# Altium schematic symbol library IBMExtender-cache.SchLib: 37 symbols
Pins are listed as number, name and electrical type; pins without a type are passive.

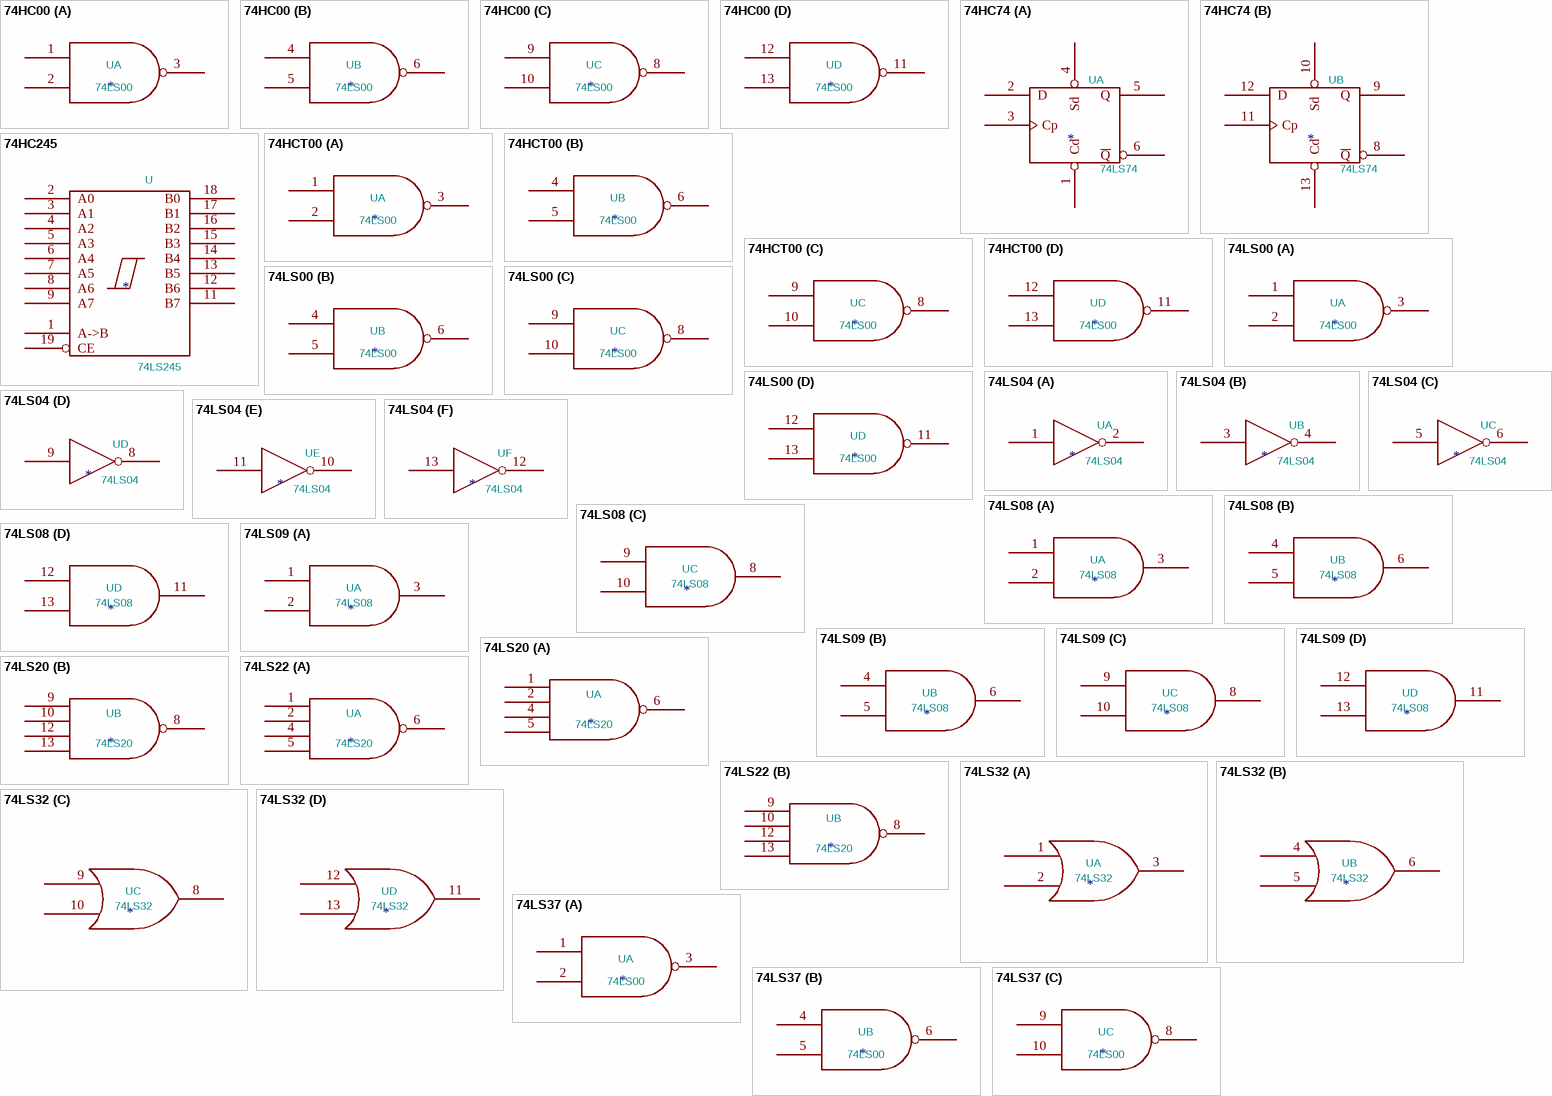
[diagram p0: symbols 74HC00 to 74LS37]

## 74HC00
designator U  value 74LS00
part A pins: 1, 2, 3, 7 GND hidden, 14 VCC hidden
part B pins: 4, 5, 6, 7 GND hidden, 14 VCC hidden
part C pins: 7 GND hidden, 8, 9, 10, 14 VCC hidden
part D pins: 7 GND hidden, 11, 12, 13, 14 VCC hidden
1 alternate drawing of the same symbol

## 74HC74
designator U  value 74LS74
part A pins: 1 Cd, 2 D, 3 Cp, 4 Sd, 5 Q, 6 ~{Q}, 7 GND hidden, 14 VCC hidden
part B pins: 7 GND hidden, 8 ~{Q}, 9 Q, 10 Sd, 11 Cp, 12 D, 13 Cd, 14 VCC hidden

## 74HC245
designator U  value 74LS245
pins: 1 A->B, 2 A0, 3 A1, 4 A2, 5 A3, 6 A4, 7 A5, 8 A6, 9 A7, 10 GND hidden, 11 B7, 12 B6, 13 B5, 14 B4, 15 B3, 16 B2, 17 B1, 18 B0, 19 CE, 20 VCC hidden

## 74HCT00
designator U  value 74LS00
part A pins: 1, 2, 3, 7 GND hidden, 14 VCC hidden
part B pins: 4, 5, 6, 7 GND hidden, 14 VCC hidden
part C pins: 7 GND hidden, 8, 9, 10, 14 VCC hidden
part D pins: 7 GND hidden, 11, 12, 13, 14 VCC hidden
1 alternate drawing of the same symbol

## 74LS00
designator U  value 74LS00
part A pins: 1, 2, 3, 7 GND hidden, 14 VCC hidden
part B pins: 4, 5, 6, 7 GND hidden, 14 VCC hidden
part C pins: 7 GND hidden, 8, 9, 10, 14 VCC hidden
part D pins: 7 GND hidden, 11, 12, 13, 14 VCC hidden
1 alternate drawing of the same symbol

## 74LS04
designator U  value 74LS04
part A pins: 1, 2, 7 GND hidden, 14 VCC hidden
part B pins: 3, 4, 7 GND hidden, 14 VCC hidden
part C pins: 5, 6, 7 GND hidden, 14 VCC hidden
part D pins: 7 GND hidden, 8, 9, 14 VCC hidden
part E pins: 7 GND hidden, 10, 11, 14 VCC hidden
part F pins: 7 GND hidden, 12, 13, 14 VCC hidden
1 alternate drawing of the same symbol

## 74LS08
designator U  value 74LS08
part A pins: 1, 2, 3, 7 GND hidden, 14 VCC hidden
part B pins: 4, 5, 6, 7 GND hidden, 14 VCC hidden
part C pins: 7 GND hidden, 8, 9, 10, 14 VCC hidden
part D pins: 7 GND hidden, 11, 12, 13, 14 VCC hidden
1 alternate drawing of the same symbol

## 74LS09
designator U  value 74LS08
part A pins: 1, 2, 3, 7 GND hidden, 14 VCC hidden
part B pins: 4, 5, 6, 7 GND hidden, 14 VCC hidden
part C pins: 7 GND hidden, 8, 9, 10, 14 VCC hidden
part D pins: 7 GND hidden, 11, 12, 13, 14 VCC hidden
1 alternate drawing of the same symbol

## 74LS20
designator U  value 74LS20
part A pins: 1, 2, 4, 5, 6, 7 GND hidden, 14 VCC hidden
part B pins: 7 GND hidden, 8, 9, 10, 12, 13, 14 VCC hidden
1 alternate drawing of the same symbol

## 74LS22
designator U  value 74LS20
part A pins: 1, 2, 4, 5, 6, 7 GND hidden, 14 VCC hidden
part B pins: 7 GND hidden, 8, 9, 10, 12, 13, 14 VCC hidden
1 alternate drawing of the same symbol

## 74LS32
designator U  value 74LS32
part A pins: 1, 2, 3, 7 GND hidden, 14 VCC hidden
part B pins: 4, 5, 6, 7 GND hidden, 14 VCC hidden
part C pins: 7 GND hidden, 8, 9, 10, 14 VCC hidden
part D pins: 7 GND hidden, 11, 12, 13, 14 VCC hidden
1 alternate drawing of the same symbol

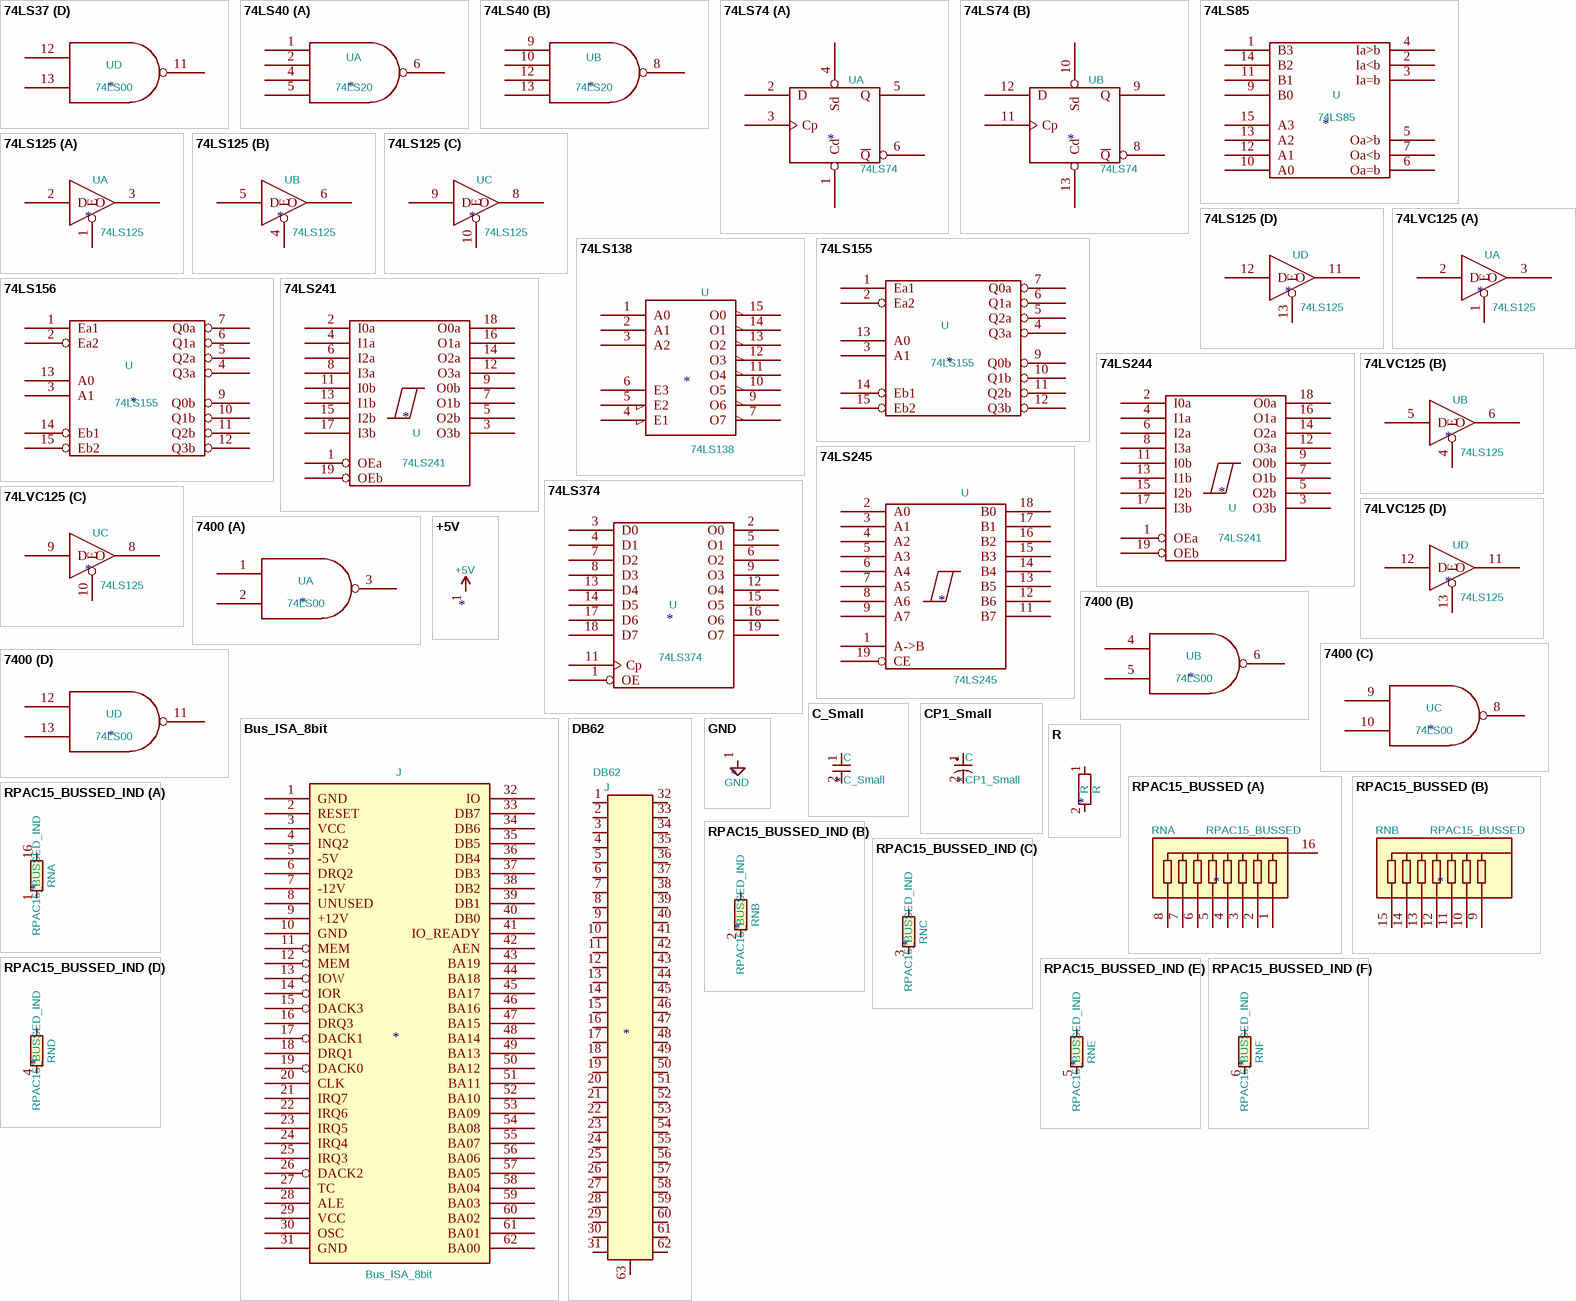
[diagram p1: symbols 74LS37 to RPAC15_BUSSED_IND]

## 74LS37
designator U  value 74LS00
part A pins: 1, 2, 3, 7 GND hidden, 14 VCC hidden
part B pins: 4, 5, 6, 7 GND hidden, 14 VCC hidden
part C pins: 7 GND hidden, 8, 9, 10, 14 VCC hidden
part D pins: 7 GND hidden, 11, 12, 13, 14 VCC hidden
1 alternate drawing of the same symbol

## 74LS40
designator U  value 74LS20
part A pins: 1, 2, 4, 5, 6, 7 GND hidden, 14 VCC hidden
part B pins: 7 GND hidden, 8, 9, 10, 12, 13, 14 VCC hidden
1 alternate drawing of the same symbol

## 74LS74
designator U  value 74LS74
part A pins: 1 Cd, 2 D, 3 Cp, 4 Sd, 5 Q, 6 ~{Q}, 7 GND hidden, 14 VCC hidden
part B pins: 7 GND hidden, 8 ~{Q}, 9 Q, 10 Sd, 11 Cp, 12 D, 13 Cd, 14 VCC hidden

## 74LS85
designator U  value 74LS85
pins: 1 B3, 2 Ia<b, 3 Ia=b, 4 Ia>b, 5 Oa>b, 6 Oa=b, 7 Oa<b, 8 GND hidden, 9 B0, 10 A0, 11 B1, 12 A1, 13 A2, 14 B2, 15 A3, 16 VCC hidden

## 74LS125
designator U  value 74LS125
part A pins: 1 E, 2 D, 3 O, 7 GND hidden, 14 VCC hidden
part B pins: 4 E, 5 D, 6 O, 7 GND hidden, 14 VCC hidden
part C pins: 7 GND hidden, 8 O, 9 D, 10 E, 14 VCC hidden
part D pins: 7 GND hidden, 11 O, 12 D, 13 E, 14 VCC hidden

## 74LS138
designator U  value 74LS138
pins: 1 A0, 2 A1, 3 A2, 4 E1, 5 E2, 6 E3, 7 O7, 8 GND hidden, 9 O6, 10 O5, 11 O4, 12 O3, 13 O2, 14 O1, 15 O0, 16 VCC hidden

## 74LS155
designator U  value 74LS155
pins: 1 Ea1, 2 Ea2, 3 A1, 4 Q3a, 5 Q2a, 6 Q1a, 7 Q0a, 8 GND hidden, 9 Q0b, 10 Q1b, 11 Q2b, 12 Q3b, 13 A0, 14 Eb1, 15 Eb2, 16 VCC hidden

## 74LS156
designator U  value 74LS155
pins: 1 Ea1, 2 Ea2, 3 A1, 4 Q3a, 5 Q2a, 6 Q1a, 7 Q0a, 8 GND hidden, 9 Q0b, 10 Q1b, 11 Q2b, 12 Q3b, 13 A0, 14 Eb1, 15 Eb2, 16 VCC hidden

## 74LS241
designator U  value 74LS241
pins: 1 OEa, 2 I0a, 3 O3b, 4 I1a, 5 O2b, 6 I2a, 7 O1b, 8 I3a, 9 O0b, 10 GND hidden, 11 I0b, 12 O3a, 13 I1b, 14 O2a, 15 I2b, 16 O1a, 17 I3b, 18 O0a, 19 OEb, 20 VCC hidden

## 74LS244
designator U  value 74LS241
pins: 1 OEa, 2 I0a, 3 O3b, 4 I1a, 5 O2b, 6 I2a, 7 O1b, 8 I3a, 9 O0b, 10 GND hidden, 11 I0b, 12 O3a, 13 I1b, 14 O2a, 15 I2b, 16 O1a, 17 I3b, 18 O0a, 19 OEb, 20 VCC hidden

## 74LS245
designator U  value 74LS245
pins: 1 A->B, 2 A0, 3 A1, 4 A2, 5 A3, 6 A4, 7 A5, 8 A6, 9 A7, 10 GND hidden, 11 B7, 12 B6, 13 B5, 14 B4, 15 B3, 16 B2, 17 B1, 18 B0, 19 CE, 20 VCC hidden

## 74LS374
designator U  value 74LS374
pins: 1 OE, 2 O0, 3 D0, 4 D1, 5 O1, 6 O2, 7 D2, 8 D3, 9 O3, 10 GND hidden, 11 Cp, 12 O4, 13 D4, 14 D5, 15 O5, 16 O6, 17 D6, 18 D7, 19 O7, 20 VCC hidden

## 74LVC125
designator U  value 74LS125
part A pins: 1 E, 2 D, 3 O, 7 GND hidden, 14 VCC hidden
part B pins: 4 E, 5 D, 6 O, 7 GND hidden, 14 VCC hidden
part C pins: 7 GND hidden, 8 O, 9 D, 10 E, 14 VCC hidden
part D pins: 7 GND hidden, 11 O, 12 D, 13 E, 14 VCC hidden

## 7400
designator U  value 74LS00
part A pins: 1, 2, 3, 7 GND hidden, 14 VCC hidden
part B pins: 4, 5, 6, 7 GND hidden, 14 VCC hidden
part C pins: 7 GND hidden, 8, 9, 10, 14 VCC hidden
part D pins: 7 GND hidden, 11, 12, 13, 14 VCC hidden
1 alternate drawing of the same symbol

## +5V
designator #PWR  value +5V
pins: 1 +5V

## Bus_ISA_8bit
designator J  value Bus_ISA_8bit
pins: 1 GND, 2 RESET, 3 VCC, 4 INQ2, 5 -5V, 6 DRQ2, 7 -12V, 8 UNUSED, 9 +12V, 10 GND, 11 MEM, 12 MEM, 13 IOW, 14 IOR, 15 DACK3, 16 DRQ3, 17 DACK1, 18 DRQ1, 19 DACK0, 20 CLK, 21 IRQ7, 22 IRQ6, 23 IRQ5, 24 IRQ4, 25 IRQ3, 26 DACK2, 27 TC, 28 ALE, 29 VCC, 30 OSC, 31 GND, 32 IO, 33 DB7, 34 DB6, 35 DB5, 36 DB4, 37 DB3, 38 DB2, 39 DB1, 40 DB0, 41 IO_READY, 42 AEN, 43 BA19, 44 BA18, 45 BA17, 46 BA16, 47 BA15, 48 BA14, 49 BA13, 50 BA12, 51 BA11, 52 BA10, 53 BA09, 54 BA08, 55 BA07, 56 BA06, 57 BA05, 58 BA04, 59 BA03, 60 BA02, 61 BA01, 62 BA00

## C_Small
designator C  value C_Small
pins: 1, 2

## CP1_Small
designator C  value CP1_Small
pins: 1, 2

## DB62
designator J  value DB62
pins: 1, 2, 3, 4, 5, 6, 7, 8, 9, 10, 11, 12, 13, 14, 15, 16, 17, 18, 19, 20, 21, 22, 23, 24, 25, 26, 27, 28, 29, 30, 31, 32, 33, 34, 35, 36, 37, 38, 39, 40, 41, 42, 43, 44, 45, 46, 47, 48, 49, 50, 51, 52, 53, 54, 55, 56, 57, 58, 59, 60, 61, 62, 63

## GND
designator #PWR  value GND
pins: 1 GND

## R
designator R  value R
pins: 1, 2

## RPAC15_BUSSED
designator RN  value RPAC15_BUSSED
part A pins: 1, 2, 3, 4, 5, 6, 7, 8, 16
part B pins: 9, 10, 11, 12, 13, 14, 15

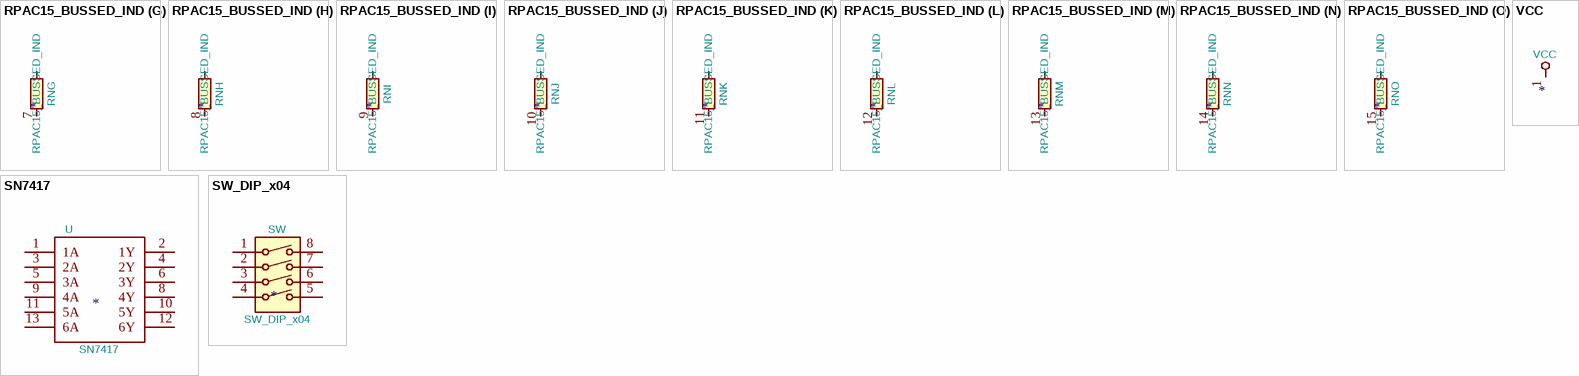
[diagram p2: symbols RPAC15_BUSSED_IND to VCC]

## RPAC15_BUSSED_IND
designator RN  value RPAC15_BUSSED_IND
part A pins: 1, 16
part B pins: 2
part C pins: 3
part D pins: 4
part E pins: 5
part F pins: 6
part G pins: 7
part H pins: 8
part I pins: 9
part J pins: 10
part K pins: 11
part L pins: 12
part M pins: 13
part N pins: 14
part O pins: 15

## SN7417
designator U  value SN7417
pins: 1 1A, 2 1Y, 3 2A, 4 2Y, 5 3A, 6 3Y, 7 GND hidden, 8 4Y, 9 4A, 10 5Y, 11 5A, 12 6Y, 13 6A, 14 VCC hidden

## SW_DIP_x04
designator SW  value SW_DIP_x04
pins: 1, 2, 3, 4, 5, 6, 7, 8

## VCC
designator #PWR  value VCC
pins: 1 VCC